# Altium schematic symbol library oscilator.SchLib: 13 symbols
Pins are listed as number, name and electrical type; pins without a type are passive.

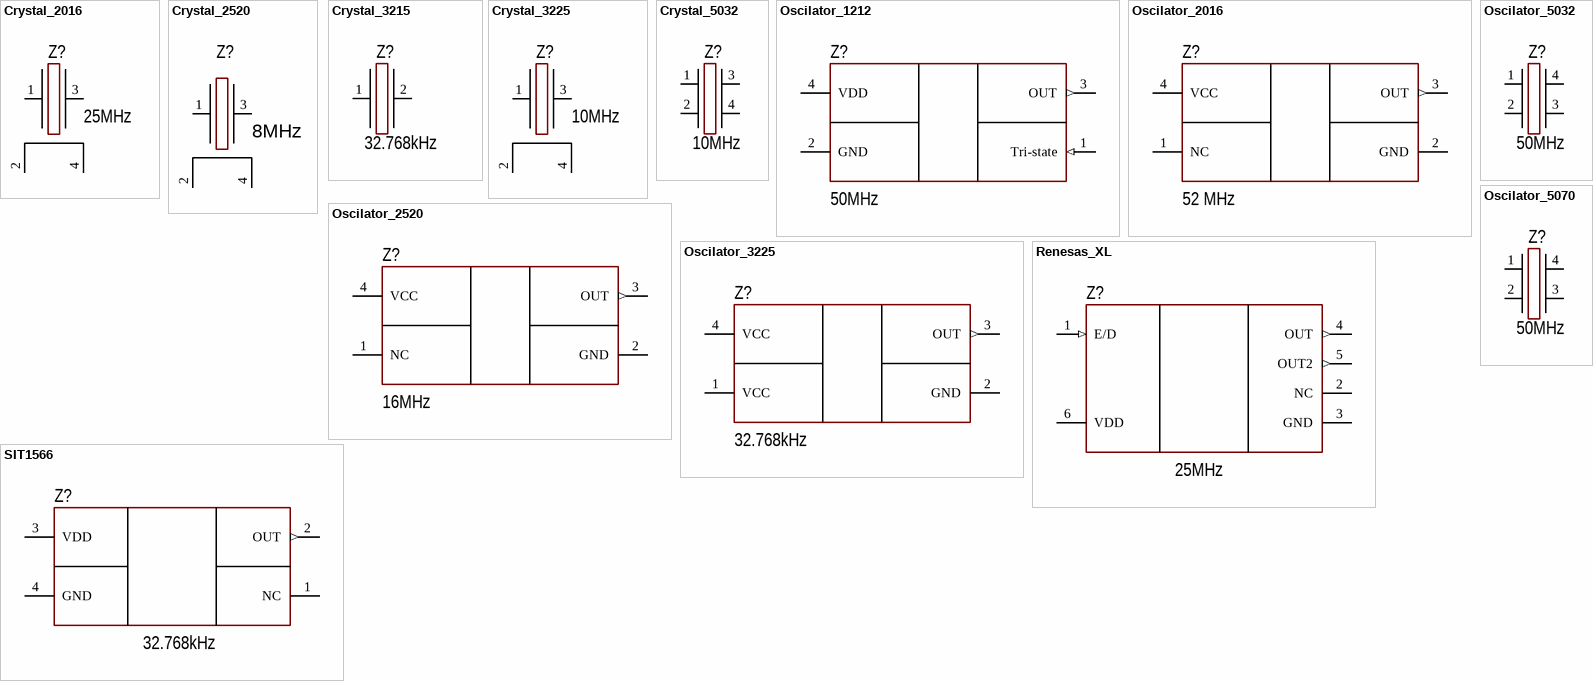
[diagram p0: symbols Crystal_2016 to SIT1566]

## Crystal_2016
designator Z?  Frequency: 25MHz
Manufacturer: Murata Electronics; PartNumber: XRCGB25M000F0L00R0; ValueManufacturerPartNumber: Crystal, 25MHz, 6pF, ±50ppm, case 2016, -30...+85°C; TypeOscilator: Crystal; LoadCapacitance: 6pF; Tolerance: ±50ppm; Package: case 2016; HelpURL: https://www.digikey.com/product-detail/en/murata-electronics-north-america/XRCGB25M000F0L00R0/490-5577-1-ND/2368391; Temperature: -30...+85°C
footprint OSC: 2016
pins: 1, 2, 3, 4

## Crystal_2520
designator Z?  Frequency: 8MHz
Manufacturer: Epson; PartNumber: FA-20H 16.0000MF20X-B; ValueManufacturerPartNumber: Crystal, 8MHz, 16pF, ±20ppm, case 2520, -40...+85°C; TypeOscilator: Crystal; LoadCapacitance: 16pF; Tolerance: ±20ppm; Package: case 2520; HelpURL: https://www.digikey.com/product-detail/en/epson/FA-20H-16.0000MF20X-B/SER4202-ND/7430937; Temperature: -40...+85°C
footprint OSC: 2520
pins: 1, 2, 3, 4

## Crystal_3215
designator Z?  Frequency: 32.768kHz
Manufacturer: Epson; PartNumber: FC-135 32.7680KA-A5; ValueManufacturerPartNumber: Crystal, 32.768kHz, 12.5pF, ±20ppm, case 3215, -40...+85°C; TypeOscilator: Crystal; LoadCapacitance: 12.5pF; Tolerance: ±20ppm; Package: case 3215; HelpURL: https://www.digikey.com/product-detail/en/epson/FC-135-32.7680KA-A5/SER4103CT-ND/6188447; Temperature: -40...+85°C
footprint OSC: 3215
pins: 1, 2

## Crystal_3225
designator Z?  Frequency: 10MHz
Manufacturer: Diodes Incorporated; PartNumber: FL1000002; ValueManufacturerPartNumber: Crystal, 10MHz, 12pF, ±25ppm, case 3225, -40...+85°C; TypeOscilator: Crystal; LoadCapacitance: 12pF; Tolerance: ±25ppm; Package: case 3225; HelpURL: https://www.digikey.com/product-detail/en/diodes-incorporated/FL1000002/FL1000002CT-ND/6042078; Temperature: -40...+85°C
footprint OSC: 3225
pins: 1, 2, 3, 4

## Crystal_5032
designator Z?  Frequency: 10MHz
Manufacturer: Diodes Incorporated; PartNumber: FY1000009; ValueManufacturerPartNumber: Crystal, 10MHz, 20pF, ±30ppm, case 5032, -40...+85°C; TypeOscilator: Crystal; LoadCapacitance: 20pF; Tolerance: ±30ppm; Package: case 5032; HelpURL: https://www.digikey.com/product-detail/en/diodes-incorporated/FY1000009/FY1000009CT-ND/6043911; Temperature: -40...+85°C
footprint OSC: 5032
pins: 1, 2, 3, 4

## Oscilator_1212
designator Z?  Frequency: 50MHz
Manufacturer: Epson; PartNumber: FY1000009SG7050CAN 50.000000M-TJGA3; ValueManufacturerPartNumber: Oscilator, 50MHz, CMOS, ±20ppm, case 5070, -40...+125°C; TypeOscilator: Oscilator; LoadCapacitance: CMOS; Tolerance: ±20ppm; Package: case 5070; HelpURL: https://datasheet.lcsc.com/lcsc/2103291134_Yangxing-Tech-O1212D12288MEDA4SC_C57996.pdf; Temperature: -40...+125°C
footprint OSC: 1212 DIP (CRYSTAL OSCILLATOR  YSO1212SR DIP)
pins: 1 Tri-state (in), 2 GND (power), 3 OUT (out), 4 VDD (power)

## Oscilator_2016
designator Z?, comment Frequency: 52 MHz  (hidden comment: https://eu.mouser.com/datasheet/2/122/ECS_TXO_20CSMV4-3104973.pdf)
Temperature Compensated Crystal Oscillator; Manufacturer: Epson; PartNumber: ECS-TXO-20CSMV4-520-AN-TR; TypeOscilator: TCXO Oscillators; LoadCapacitance: 10pF; Tolerance: ±0.5ppm; Package: case 2016; HelpURL: https://eu.mouser.com/datasheet/2/122/ECS_TXO_20CSMV4-3104973.pdf; ValueManufacturerPartNumber: https://eu.mouser.com/datasheet/2/122/ECS_TXO_20CSMV4-3104973.pdf; Temperature: -40...+85°C
footprint OSC: 2016
pins: 1 NC, 2 GND (power), 3 OUT (out), 4 VCC (power)

## Oscilator_2520
designator Z?, comment Frequency: 16MHz  (hidden comment: https://www.mouser.ee/datasheet/2/137/Epson_TG2016SMN_en_1649545-1889946.pdf)
Temperature Compensated Crystal Oscillator; Manufacturer: Epson; PartNumber: TG2520SMN 16.0000M-MCGNNM3; TypeOscilator: TCXO Oscillators; LoadCapacitance: 10pF; Tolerance: ±0.5ppm; Package: case 3225; HelpURL: https://datasheet.lcsc.com/lcsc/1810161231_KDS-Daishinku-1XZA032768AD19_C213398.pdf; ValueManufacturerPartNumber: https://www.mouser.ee/datasheet/2/137/Epson_TG2016SMN_en_1649545-1889946.pdf; Temperature: -40...+85°C
footprint OSC: 2520
pins: 1 NC, 2 GND (power), 3 OUT (out), 4 VCC (power)

## Oscilator_3225
designator Z?  Frequency: 32.768kHz
Temperature Compensated Crystal Oscillator; Manufacturer: KDS; PartNumber: 1XZA032768AD19; ValueManufacturerPartNumber: Oscilator, 32.768kHz, CMOS, ±5ppm, case 3225, -40...+85°C; TypeOscilator: Oscilator; LoadCapacitance: CMOS; Tolerance: ±5ppm; Package: case 3225; HelpURL: https://datasheet.lcsc.com/lcsc/1810161231_KDS-Daishinku-1XZA032768AD19_C213398.pdf; Temperature: -40...+85°C
footprint OSC: 3225
pins: 1 VCC (power), 2 GND (power), 3 OUT (out), 4 VCC (power)

## Oscilator_5032
designator Z?  Frequency: 50MHz
Manufacturer: Abracon LLC; PartNumber: ASFL1-50.000MHZ-EC-T; ValueManufacturerPartNumber: Oscilator, 50MHz, HCMOS, ±50ppm, case 5032, -20...+70°C; TypeOscilator: Oscilator; LoadCapacitance: HCMOS; Tolerance: ±50ppm; Package: case 5032; HelpURL: https://www.digikey.com/product-detail/en/abracon-llc/ASFL1-50.000MHZ-EC-T/300-8264-1-ND/687957; Temperature: -20...+70°C
footprint OSC: 5032G
pins: 1, 2, 3, 4

## Oscilator_5070
designator Z?  Frequency: 50MHz
Manufacturer: Epson; PartNumber: FY1000009SG7050CAN 50.000000M-TJGA3; ValueManufacturerPartNumber: Oscilator, 50MHz, CMOS, ±50ppm, case 5070, -40...+85°C; TypeOscilator: Oscilator; LoadCapacitance: CMOS; Tolerance: ±50ppm; Package: case 5070; HelpURL: https://www.digikey.com/product-detail/en/epson/SG7050CAN-50.000000M-TJGA3/SER4004DKR-ND/5175230; Temperature: -40...+85°C
footprint OSC: 5070G
pins: 1, 2, 3, 4

## Renesas_XL
designator Z?  Frequency: 25MHz
Differential output; Manufacturer: Renesas; PartNumber: XLL336025.000000X; ValueManufacturerPartNumber: Crystal, 25MHz, 12pF, ±25ppm, XL3225, -20...+70°C; TypeOscilator: Crystal; LoadCapacitance: 12pF; Tolerance: ±25ppm; Package: XL3225; HelpURL: https://www.mouser.ee/ProductDetail/Renesas-Electronics/XLL336025.000000X?qs=itIaUkCn8qABFOHwBdp5iw%3D%3D; Temperature: -20...+70°C
footprint OSC: XL3225 (Renesas differential output oscilator)
pins: 1 E/D (in), 2 NC, 3 GND (power), 4 OUT (out), 5 OUT2 (out), 6 VDD (power)

## SIT1566
designator Z?  Frequency: 32.768kHz
TCXO; Manufacturer: Renesas; PartNumber: SIT1566AC-JV-XXE-32.768D; ValueManufacturerPartNumber: TCXO, 32.768kHz, , ±3ppm, SIT1566, -20...+70°C; Tolerance: ±3ppm; Package: SIT1566; HelpURL: https://www.mouser.ee/datasheet/2/371/SiT1566_datasheet-1511368.pdf; Temperature: -20...+70°C; TypeOscilator: TCXO
footprint 4-UFBGA (TCXO)
pins: 1 NC, 2 OUT (out), 3 VDD (power), 4 GND (power)